# Altium footprint library NeoIVClock.PcbLib: 43 footprints (part 3 of 3)
Each footprint in its own frame and in the unit in brackets; x right, y up, seen from the top. Pads: shape width x height; smd on the part's side, far side on the other; paste and mask are expansions set on the pad; w line width, h text height; cw(c..) or ccw(c..) is an arc to the next point about the centre after c.
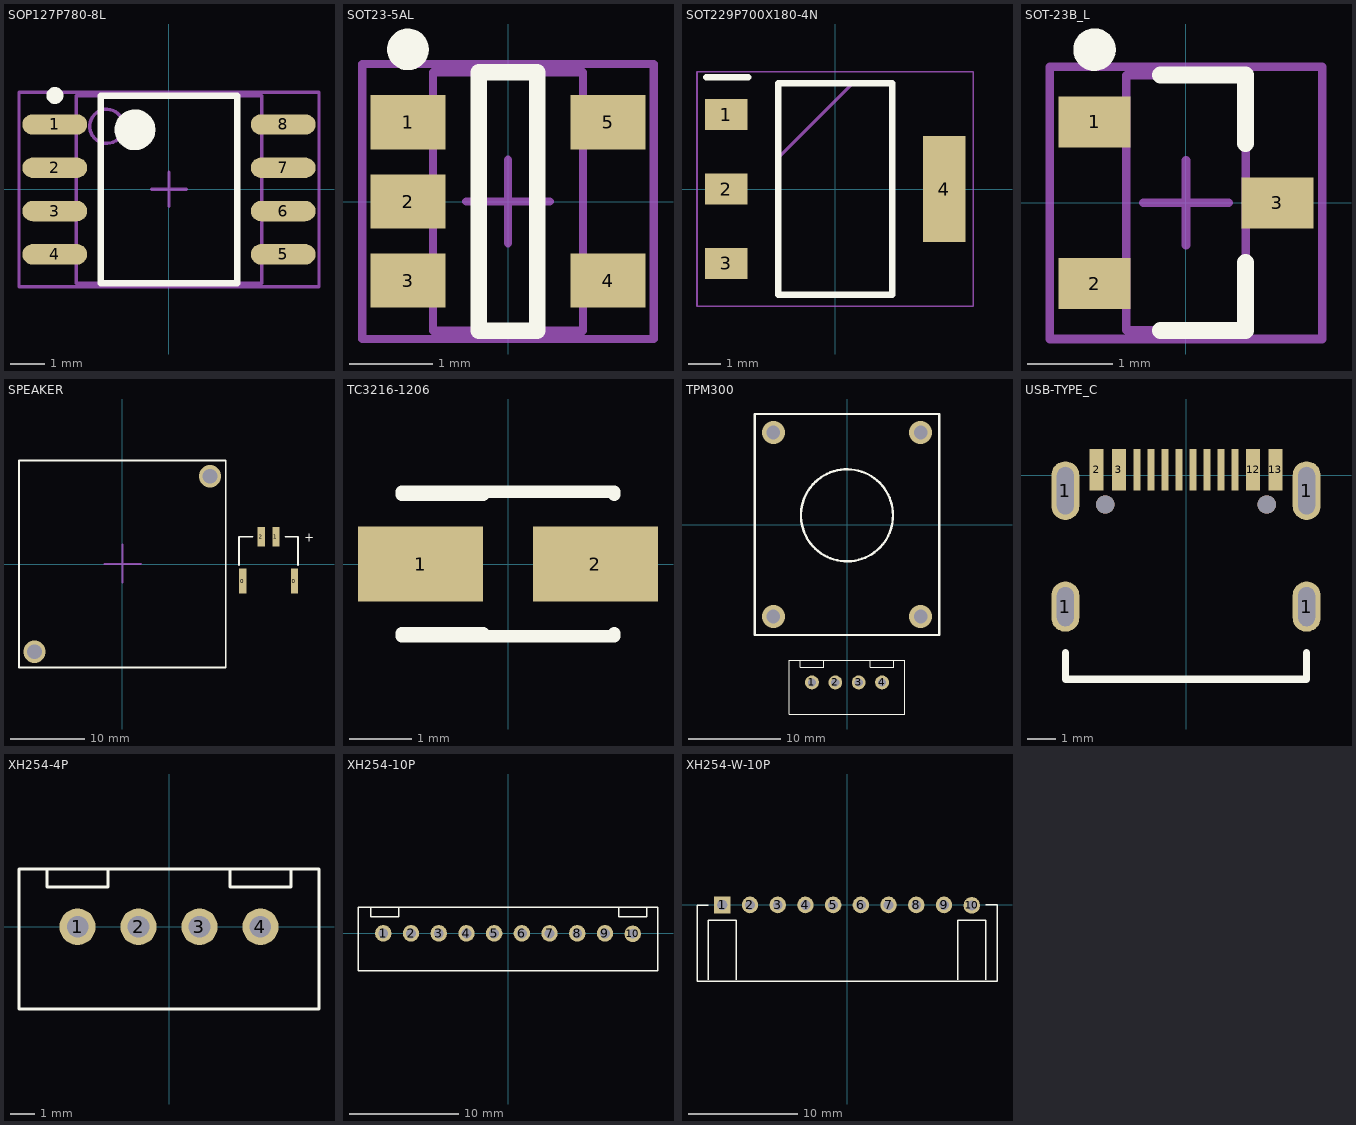
[diagram p2: the footprints below, top view; thin cyan lines are the x and y axes]

## SOP127P780-8L [mm] "SOP, 8-Leads, Body 5.3x5.3mm, Pitch 1.27mm, IPC High Density"
height 2.03
pads (8):
  oval 1.9x0.6 smd: 1(-3.35,1.905) 2(-3.35,0.635) 3(-3.35,-0.635) 4(-3.35,-1.905) 5(3.35,-1.905) 6(3.35,-0.635) 7(3.35,0.635) 8(3.35,1.905)
Top Overlay:
  circle w0.25: c-3.35,2.755 r0.125
  circle w0.6: c-1,1.75 r0.3
  lines w0.2: -2,-2.75 -2,2.75 2,2.75 2,-2.75 -2,-2.75
Mechanical 13:
  circle w0.1: c-1.825,1.85 r0.5
  lines w0.1: -2.725,-2.75 -2.725,2.75 2.725,2.75 2.725,-2.75 -2.725,-2.75
Mechanical 15:
  lines w0.1: -0.5,0 0.5,0 ; 0,-0.5 0,0.5 ; -4.4,-2.85 -4.4,2.85 4.4,2.85 4.4,-2.85 -4.4,-2.85
3D body: height 2.03, standoff 0, extent -2.725,-2.75 2.725,2.75

## SOT23-5AL [mm] "SOT23, 5-Leads, Body 2.9x1.6mm, Pitch 0.95mm, Lead Span 2.8mm, IPC High Density"
height 1.45
pads (5):
  rect 0.9x0.65 smd: 1(-1.2,0.95) 2(-1.2,0) 3(-1.2,-0.95) 4(1.2,-0.95) 5(1.2,0.95)
Top Overlay:
  circle w0.25: c-1.2,1.825 r0.125
  lines w0.2: -0.35,-1.55 -0.35,1.55 0.35,1.55 0.35,-1.55 -0.35,-1.55
Mechanical 13:
  lines w0.1: -0.9,-1.55 0.9,-1.55 0.9,1.55 -0.9,1.55 -0.9,-1.55
Mechanical 15:
  lines w0.1: -0.5,0 0.5,0 ; 0,-0.5 0,0.5 ; -1.75,-1.65 1.75,-1.65 1.75,1.65 -1.75,1.65 -1.75,-1.65
3D body: height 1.45, standoff 0, extent -0.9,-1.55 0.9,1.55

## SOT229P700X180-4N [mm]
pads (4):
  rect 1.3x0.95 smd: 1(-3.35,2.29) 2(-3.35,0) 3(-3.35,-2.29)
  rect 1.3x3.25 smd: 4(3.35,0)
Top Overlay:
  lines w0.2: -3.967,3.429 -2.667,3.429 ; -1.752,-3.252 -1.752,3.252 1.752,3.252 1.752,-3.252 -1.752,-3.252
Mechanical 15:
  lines w0.1: -1.752,0.962 0.538,3.252 ; -1.752,-3.252 -1.752,3.252 1.752,3.252 1.752,-3.252 -1.752,-3.252
Mechanical 20:
  lines w0.05: -4.25,-3.605 -4.25,3.605 4.25,3.605 4.25,-3.605 -4.25,-3.605

## SOT-23B_L [mm] "SOT23, 3-Leads, Body 2.9x1.3mm, Pitch 0.95mm, Lead Span 2.4mm, IPC High Density"
height 1.14
pads (3):
  rect 0.85x0.6 smd: 1(-1.075,0.95) 2(-1.075,-0.95) 3(1.075,0)
Top Overlay:
  circle w0.25: c-1.075,1.8 r0.125
  lines w0.2: -0.3,-1.5 0.7,-1.5 0.7,-0.7 ; -0.3,1.5 0.7,1.5 0.7,0.7
Mechanical 13:
  lines w0.1: -0.7,-1.5 -0.7,1.5 0.7,1.5 0.7,-1.5 -0.7,-1.5
Mechanical 15:
  lines w0.1: -0.5,0 0.5,0 ; 0,-0.5 0,0.5 ; -1.6,-1.6 -1.6,1.6 1.6,1.6 1.6,-1.6 -1.6,-1.6
3D body: height 1.14, standoff 0, extent -0.7,-1.5 0.7,1.5

## SPEAKER [mm]
pads (4):
  rect 1x3.4 smd: 0(16.312,-2.317) 0(23.312,-2.317)
  rect 1x2.6 smd: 1(20.812,3.683) 2(18.812,3.683)
via 11.885,11.885 diameter 3 hole 2
via -11.885,-11.885 diameter 3 hole 2
Top Overlay:
  lines w0.254: 15.812,-0.127 15.812,3.683 17.653,3.683 ; 22.098,3.683 23.78,3.683 ; 23.812,-0.127 23.812,3.683 ; -14,-14 14,-14 14,14 -14,14 -14,-14
  text "+" at 24.638,2.587 h2
Mechanical 15:
  lines w0.254: -2.413,0 0,0 ; 0,-2.54 0,0 ; 0,2.667 0,0 ; 2.54,0 0,0
3D body: height 10, standoff 0, extent -14.097,-14.097 14.097,13.97
3D body: height 5.7, standoff 0, extent 15.875,-3.81 23.749,3.683

## TC3216-1206 [mm] "Capacitor, SM Tantalum; Body 3.2 x 1.6 mm (LxW typ)"
height 2.2
pads (2):
  rect 2x1.2 smd: 1(-1.4,0) 2(1.4,0)
Top Overlay:
  lines w0.2: -1.7,-1.154 1.7,-1.154 1.7,-1.104 ; -1.7,-1.104 -0.4,-1.104 ; -1.7,1.104 -0.4,1.104 ; -1.7,1.154 1.7,1.154 1.7,1.104

## TPM300 [mm]
pads (4):
  oval 1.5x1.524 hole 0.9: 1(-3.81,-17.145) 2(-1.27,-17.145) 3(1.27,-17.145) 4(3.81,-17.145)
via 8,-10 diameter 2.5 hole 1.5
via -8,-10 diameter 2.5 hole 1.5
via -8,10 diameter 2.5 hole 1.5
via 8,10 diameter 2.5 hole 1.5
Top Overlay:
  circle w0.254: c0,1 r5
  lines w0.127: -5.08,-14.732 -5.08,-15.494 -2.54,-15.494 -2.54,-14.732 ; 2.54,-14.732 2.54,-15.494 5.08,-15.494 5.08,-14.732 ; -6.25,-20.574 6.25,-20.574 6.25,-14.745 -6.25,-14.745 -6.25,-20.574
  lines w0.254: -10,-12 10,-12 10,12 -10,12 -10,-12
3D body: height 7, standoff 0, extent -6.223,-20.574 6.223,-14.732

## USB-TYPE_C [mm]
pads (16):
  oval 1x1.8 hole 0.6 slot 1.4 at 90 deg: 1(-4.32,-4.7) 1(4.32,-4.7)
  oval 1x2.1 hole 0.6 slot 1.7 at 90 deg: 1(-4.32,-0.55) 1(4.32,-0.55)
  rect 0.5x1.5 smd: 2(-3.2,0.2) 3(-2.4,0.2) 12(2.4,0.2) 13(3.2,0.2)
  rect 0.25x1.5 smd: 4(-1.75,0.2) 5(-1.25,0.2) 6(-0.75,0.2) 7(-0.25,0.2) 8(0.25,0.2) 9(0.75,0.2) 10(1.25,0.2) 11(1.75,0.2)
via 2.89,-1.05 diameter 0.65 hole 0.65
via -2.89,-1.05 diameter 0.65 hole 0.65
Top Overlay:
  lines w0.254: -4.32,-6.352 -4.32,-7.3 4.32,-7.3 4.32,-6.352
3D body: height 3.26, standoff 0, extent -4.32,-7.366 4.32,0.127

## XH254-4P [mm] "XH254-4P"
pads (4):
  oval 1.5x1.524 hole 0.9: 1(-3.81,0) 2(-1.27,0) 3(1.27,0) 4(3.81,0)
Top Overlay:
  lines w0.127: -5.08,2.413 -5.08,1.651 -2.54,1.651 -2.54,2.413 ; 2.54,2.413 2.54,1.651 5.08,1.651 5.08,2.413 ; -6.25,-3.429 6.25,-3.429 6.25,2.4 -6.25,2.4 -6.25,-3.429
3D body: height 7, standoff 0, extent -6.223,-3.429 6.223,2.413

## XH254-10P [mm] "X254-10P"
pads (10):
  oval 1.5x1.524 hole 0.9: 1(-11.43,0) 2(-8.89,0) 3(-6.35,0) 4(-3.81,0) 5(-1.27,0) 6(1.27,0) 7(3.81,0) 8(6.35,0) 9(8.89,0) 10(11.43,-0.041)
Top Overlay:
  lines w0.127: -13.75,-3.429 13.75,-3.429 ; -13.75,2.4 13.75,2.4 ; -13.743,-3.429 -13.743,2.4 ; -12.573,2.286 -12.573,1.524 -10.033,1.524 -10.033,2.286 ; 10.16,2.286 10.16,1.524 12.7,1.524 12.7,2.286 ; 13.743,-3.429 13.743,2.4
3D body: height 7, standoff 0, extent -13.716,-3.302 13.716,2.413

## XH254-W-10P [mm] "X254-10P"
pads (10):
  rect 1.5x1.524 hole 0.9: 1(-11.43,0)
  oval 1.5x1.524 hole 0.9: 2(-8.89,0) 3(-6.35,0) 4(-3.81,0) 5(-1.27,0) 6(1.27,0) 7(3.81,0) 8(6.35,0) 9(8.89,0) 10(11.43,-0.041)
Top Overlay:
  lines w0.127: -12.727,-0.027 -13.743,-0.027 -13.743,-7 13.743,-7 13.743,0 12.7,0 ; -12.7,-6.858 -12.7,-1.397 -10.16,-1.397 -10.16,-6.858 ; 10.16,-6.858 10.16,-1.397 12.7,-1.397 12.7,-6.858
3D body: height 5.8, standoff 0, extent -13.716,-6.985 13.716,0